# Altium schematic symbol library MECH,Heatsink,omniKlip,OMNI-UNI-34-50.SchLib: 1 symbol
Pins are listed as number, name and electrical type; pins without a type are passive.

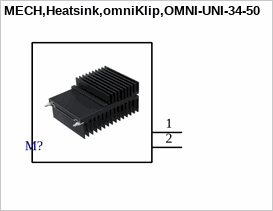
[diagram p0: symbol MECH,Heatsink,omniKlip,OMNI-UNI-34-50]

## MECH,Heatsink,omniKlip,OMNI-UNI-34-50
designator M?
pins: 1, 2